# Altium footprint library QFN22-SPE-DIE001.PcbLib: 1 footprints
Each footprint in its own frame and in the unit in brackets; x right, y up, seen from the top. Pads: shape width x height; smd on the part's side, far side on the other; paste and mask are expansions set on the pad; w line width, h text height; cw(c..) or ccw(c..) is an arc to the next point about the centre after c.
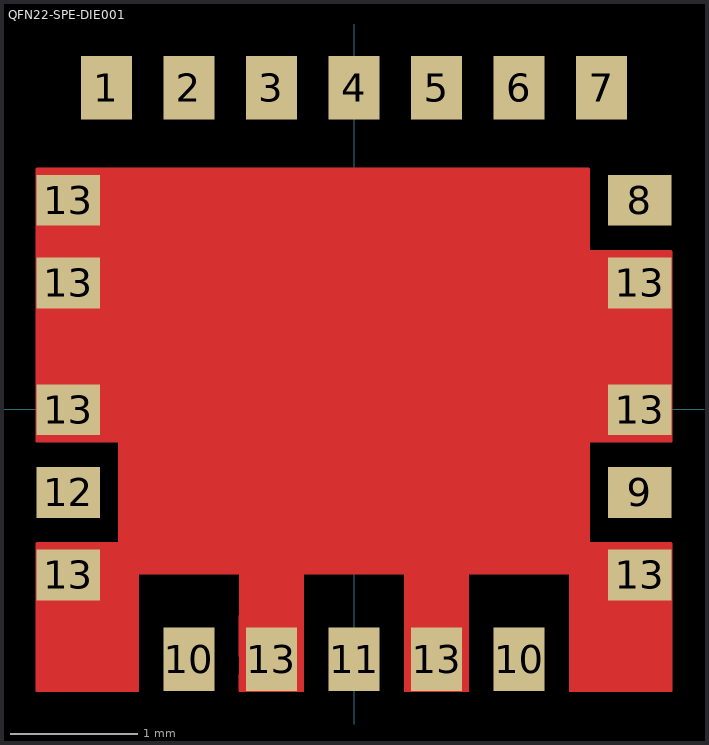
[diagram p0: the footprint, top view; thin cyan lines are the x and y axes]

## QFN22-SPE-DIE001 [mm]
pads (22):
  rect 0.4x0.5 smd mask+0.07: 1(-1.95,2.53) 2(-1.3,2.53) 3(-0.65,2.53) 4(0,2.53) 5(0.65,2.53) 6(1.3,2.53) 7(1.95,2.53) 10(-1.3,-1.97) 10(1.3,-1.97) 11(0,-1.97) 13(-0.65,-1.97) 13(0.65,-1.97)
  rect 0.5x0.4 smd mask+0.07: 8(2.25,1.645) 9(2.25,-0.655) 12(-2.25,-0.655) 13(-2.25,-1.305) 13(-2.25,-0.005) 13(-2.25,0.995) 13(-2.25,1.645) 13(2.25,-1.305) 13(2.25,-0.005) 13(2.25,0.995)
Top Layer:
  region: -2.506,-2.22 -2.504,-2.224 -2.5,-2.226 -2.5,-2.225 -1.7,-2.226 -1.696,-2.224 -1.694,-2.22 -1.695,-2.22 -1.695,-1.301 -0.906,-1.301 -0.906,-1.945 -0.906,-2.22 -0.904,-2.224 -0.9,-2.226 -0.9,-2.225 -0.4,-2.226 -0.396,-2.224 -0.394,-2.22 -0.395,-2.22 -0.395,-1.301 0.395,-1.301 0.394,-2.22 0.396,-2.224 0.4,-2.226 0.9,-2.226 0.904,-2.224 0.906,-2.22 0.905,-2.22 0.905,-1.301 1.695,-1.301 1.694,-2.22 1.696,-2.224 1.7,-2.226 1.7,-2.225 2.5,-2.226 2.504,-2.224 2.506,-2.22 2.505,-2.22 2.506,-1.055 2.504,-1.051 2.5,-1.049 2.5,-1.05 1.855,-1.05 1.855,-0.261 2.5,-0.261 2.504,-0.259 2.506,-0.255 2.505,-0.255 2.506,1.245 2.504,1.249 2.5,1.251 2.5,1.25 1.855,1.25 1.856,1.895 1.854,1.899 1.85,1.901 1.85,1.9 -2.5,1.901 -2.504,1.899 -2.506,1.895 -2.505,1.895 -2.506,-0.255 -2.504,-0.259 -2.5,-0.261 -1.855,-0.261 -1.855,-1.05 -2.5,-1.049 -2.504,-1.051 -2.506,-1.055 -2.505,-1.055
Top Paste:
  region: -1.42,-0.895 1.42,-0.895 1.42,1.695 -1.42,1.695
Top Solder:
  region: -1.62,-1.101 -1.624,-1.099 -1.626,-1.095 -1.625,-1.095 -1.626,1.895 -1.624,1.899 -1.62,1.901 -1.62,1.9 1.62,1.901 1.624,1.899 1.626,1.895 1.625,1.895 1.626,-1.095 1.624,-1.099 1.62,-1.101
3D body: height 1, standoff 0, extent -2.5,-2.2 2.5,2.8